# Altium integrated library Analog Devices Temperature Sensors.IntLib: 271 symbols (part 10 of 14)
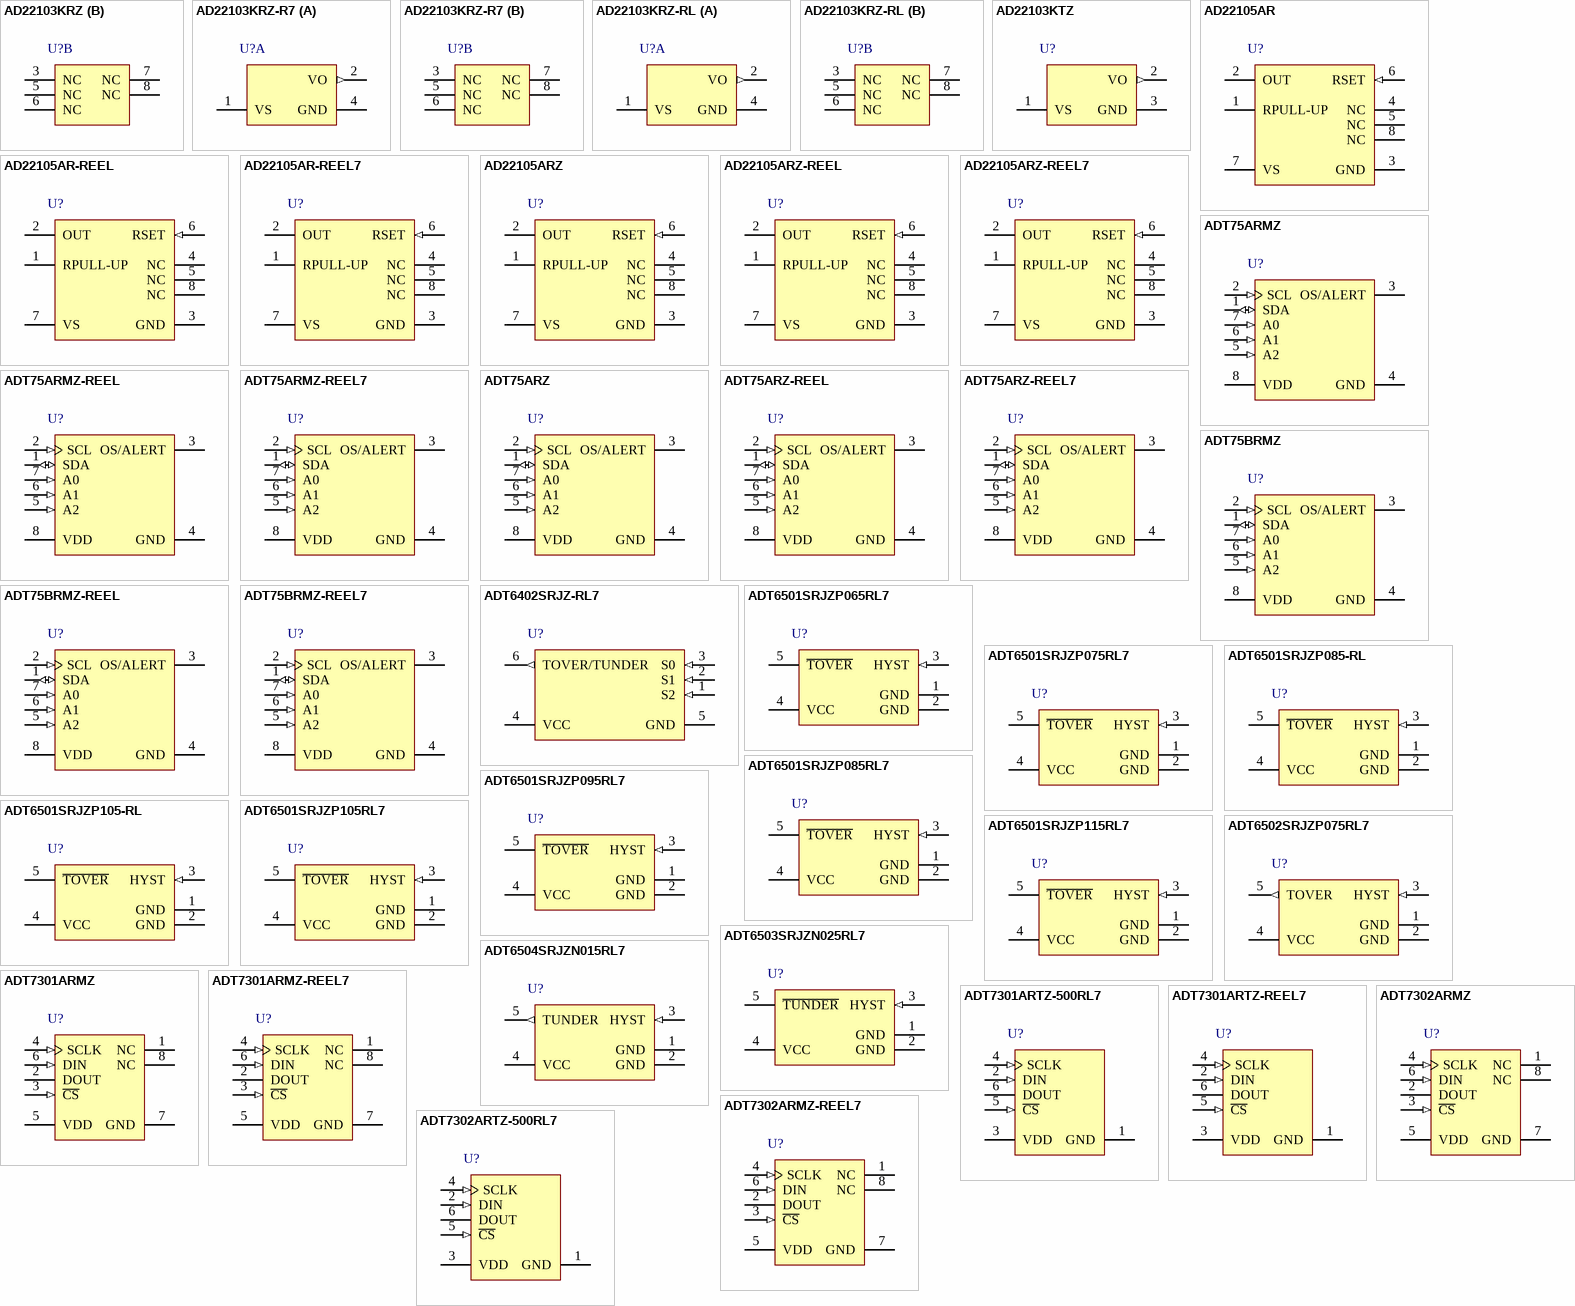
[diagram p16: symbols AD22103KRZ to ADT7302ARTZ-500RL7]

## ADT7301ARTZ-REEL7
designator U?
+/-1 degrees C Accurate, 13-Bit, Digital Temperature Sensor, 2.7 to 5.25 V Supply, Industrial, 6-pin SOT23 (RJ-6), Reel; Manufacturer: Analog Devices; PartNumber: ADT7301ARTZ-REEL7; DatasheetVersion: Rev. B; PackageVersion: 121608-A, 12/2008; PackageReference: RJ-6; PackageDescription: 6-Pin Small Outline Transistor Package, Body 2.9 x 1.6 mm, Pitch 0.95 mm; Supplier 1: Digi-Key; Supplier Part Number 1: ADT7301ARTZ-REEL7TR-ND; Supplier 2: Digi-Key; Supplier Part Number 2: ADT7301ARTZ-REEL7CT-ND; Supplier 3: Digi-Key; Supplier Part Number 3: ADT7301ARTZ-REEL7DKR-ND; Supplier 4: Farnell; Supplier Part Number 4: 2312915; Supplier 5: Newark; Supplier Part Number 5: 67W2736; Supplier 6: Newark; Supplier Part Number 6: 59K3052; Supplier 7: Mouser; Supplier Part Number 7: 584-ADT7301ARTZ-R7; Packing: Reel; Supply Voltage Range: 2.7 to 5.25 V; Mounting Technology: Surface Mount; Code_JEDEC: MO-178-AB; ComponentLink1Description: Manufacturer URL; ComponentLink1URL: http://www.analog.com/en/index.html; ComponentLink2Description: Datasheet; ComponentLink2URL: http://www.analog.com/static/imported-files/data_sheets/ADT7301.pdf; ComponentLink3Description: Package Specification; ComponentLink3URL: http://www.analog.com/static/imported-files/packages/PKG_PDF/SOT-23(RJ)/RJ_6.pdf; ComponentLink4Description: Product URL; ComponentLink4URL: http://www.analog.com/en/mems-sensors/digital-temperature-sensors/adt7301/products/product.html
footprint ADI-RJ-6_N (SOT23, 6-Leads, Body 2.9x1.6mm, Pitch 0.95mm, IPC Medium Density)
footprint ADI-RJ-6_L (SOT23, 6-Leads, Body 2.9x1.6mm, Pitch 0.95mm, IPC High Density)
footprint ADI-RJ-6_M (SOT23, 6-Leads, Body 2.9x1.6mm, Pitch 0.95mm, IPC Low Density)
pins: 1 GND (power) "Analog and Digital Ground.", 2 DIN (in) "Serial Data Input. Serial data to be loaded to the part’s control register is provided on this input. Data is clocked into the control register on the rising edge of SCLK.", 3 VDD (power) "Positive Supply Voltage, 2.7 V to 5.25 V.", 4 SCLK (in) "Serial Clock Input. This is the clock input for the serial port. The serial clock is used to clock data out of the temperature value register and to clock data into the control register on the part.", 5 ~{CS} (in) "Chip Select Input. Logic input. The device is selected when this input is low. The SCLK input is disabled when this pin is high.", 6 DOUT (hiz) "Serial Data Output. Logic output. Data is clocked out of the temperature value register at this pin. Data is clocked out on the falling edge of SCLK."

## ADT7302ARMZ
designator U?
+/-2 degrees C Accurate, MicroPower Digital Temperature Sensor, 2.7 to 5.25 V Supply, Industrial, 8-pin SOP (RM-8), Tube; Manufacturer: Analog Devices; PartNumber: ADT7302ARMZ; DatasheetVersion: Rev. B; PackageVersion: 08/2005; PackageReference: RM-8; PackageDescription: 8-Pin Mini Small Outline Package, Body 3 x 3 mm, Pitch 0.65 mm; Supplier 1: Digi-Key; Supplier Part Number 1: ADT7302ARMZ-ND; Supplier 2: Farnell; Supplier Part Number 2: 1117855; Supplier 3: Newark; Supplier Part Number 3: 31M3895; Supplier 4: Newark; Supplier Part Number 4: 59K3054; Supplier 5: Mouser; Supplier Part Number 5: 584-ADT7302ARMZ; Packing: Tube; Supply Voltage Range: 2.7 to 5.25 V; Mounting Technology: Surface Mount; Code_JEDEC: MO-187-AA; ComponentLink1Description: Manufacturer URL; ComponentLink1URL: http://www.analog.com/en/index.html; ComponentLink2Description: Datasheet; ComponentLink2URL: http://www.analog.com/static/imported-files/data_sheets/ADT7302.pdf; ComponentLink3Description: Package Specification; ComponentLink3URL: http://www.analog.com/static/imported-files/packages/PKG_PDF/MSOP%28RM%29/RM_8.pdf; ComponentLink4Description: Product URL; ComponentLink4URL: http://www.analog.com/en/mems-sensors/digital-temperature-sensors/adt7302/products/product.html
footprint ADI-RM-8_N (SOP, 8-Leads, Body 3x3mm, Pitch 0.65mm, IPC Medium Density)
footprint ADI-RM-8_L (SOP, 8-Leads, Body 3x3mm, Pitch 0.65mm, IPC High Density)
footprint ADI-RM-8_M (SOP, 8-Leads, Body 3x3mm, Pitch 0.65mm, IPC Low Density)
pins: 1 NC "No Connect.", 2 DOUT (hiz) "Serial Data Output. Logic output. Data is clocked out of the temperature value register at this pin. Data is clocked out on the falling edge of SCLK.", 3 ~{CS} (in) "Chip Select Input. Logic input. The device is selected when this input is low. The SCLK input is disabled when this pin is high.", 4 SCLK (in) "Serial Clock Input. This is the clock input for the serial port.", 5 VDD (power) "Positive Supply Voltage.", 6 DIN (in) "Serial Data Input. Serial data to be loaded to the part’s control register is provided on this input. Data is clocked into the control register on the rising edge of SCLK.", 7 GND (power) "Analog and Digital Ground.", 8 NC "No Connect."

## ADT7302ARMZ-REEL7
designator U?
+/-2 degrees C Accurate, MicroPower Digital Temperature Sensor, 2.7 to 5.25 V Supply, Industrial, 8-pin SOP (RM-8), Reel; Manufacturer: Analog Devices; PartNumber: ADT7302ARMZ-REEL7; DatasheetVersion: Rev. B; PackageVersion: 08/2005; PackageReference: RM-8; PackageDescription: 8-Pin Mini Small Outline Package, Body 3 x 3 mm, Pitch 0.65 mm; Supplier 1: Digi-Key; Supplier Part Number 1: ADT7302ARMZ-REEL7TR-ND; Supplier 2: Digi-Key; Supplier Part Number 2: ADT7302ARMZ-REEL7CT-ND; Supplier 3: Digi-Key; Supplier Part Number 3: ADT7302ARMZ-REEL7DKR-ND; Supplier 4: Mouser; Supplier Part Number 4: 584-ADT7302ARMZ-R7; Packing: Reel; Supply Voltage Range: 2.7 to 5.25 V; Mounting Technology: Surface Mount; Code_JEDEC: MO-187-AA; ComponentLink1Description: Manufacturer URL; ComponentLink1URL: http://www.analog.com/en/index.html; ComponentLink2Description: Datasheet; ComponentLink2URL: http://www.analog.com/static/imported-files/data_sheets/ADT7302.pdf; ComponentLink3Description: Package Specification; ComponentLink3URL: http://www.analog.com/static/imported-files/packages/PKG_PDF/MSOP%28RM%29/RM_8.pdf; ComponentLink4Description: Product URL; ComponentLink4URL: http://www.analog.com/en/mems-sensors/digital-temperature-sensors/adt7302/products/product.html
footprint ADI-RM-8_N (SOP, 8-Leads, Body 3x3mm, Pitch 0.65mm, IPC Medium Density)
footprint ADI-RM-8_L (SOP, 8-Leads, Body 3x3mm, Pitch 0.65mm, IPC High Density)
footprint ADI-RM-8_M (SOP, 8-Leads, Body 3x3mm, Pitch 0.65mm, IPC Low Density)
pins: 1 NC "No Connect.", 2 DOUT (hiz) "Serial Data Output. Logic output. Data is clocked out of the temperature value register at this pin. Data is clocked out on the falling edge of SCLK.", 3 ~{CS} (in) "Chip Select Input. Logic input. The device is selected when this input is low. The SCLK input is disabled when this pin is high.", 4 SCLK (in) "Serial Clock Input. This is the clock input for the serial port.", 5 VDD (power) "Positive Supply Voltage.", 6 DIN (in) "Serial Data Input. Serial data to be loaded to the part’s control register is provided on this input. Data is clocked into the control register on the rising edge of SCLK.", 7 GND (power) "Analog and Digital Ground.", 8 NC "No Connect."

## ADT7302ARTZ-500RL7
designator U?
+/-2 degrees C Accurate, MicroPower Digital Temperature Sensor, 2.7 to 5.25 V Supply, Industrial, 6-pin SOT23 (RJ-6), Reel; Manufacturer: Analog Devices; PartNumber: ADT7302ARTZ-500RL7; DatasheetVersion: Rev. B; PackageVersion: 121608-A, 12/2008; PackageReference: RJ-6; PackageDescription: 6-Pin Small Outline Transistor Package, Body 2.9 x 1.6 mm, Pitch 0.95 mm; Supplier 1: Digi-Key; Supplier Part Number 1: ADT7302ARTZ-500RL7TR-ND; Supplier 2: Digi-Key; Supplier Part Number 2: ADT7302ARTZ-500RL7CT-ND; Supplier 3: Digi-Key; Supplier Part Number 3: ADT7302ARTZ-500RL7DKR-ND; Supplier 4: Farnell; Supplier Part Number 4: 2377121; Supplier 5: Newark; Supplier Part Number 5: 99W6455; Supplier 6: Newark; Supplier Part Number 6: 59K3056; Supplier 7: Mouser; Supplier Part Number 7: 584-ADT7302ARTZ500R7; Packing: Reel; Supply Voltage Range: 2.7 to 5.25 V; Mounting Technology: Surface Mount; Code_JEDEC: MO-178-AB; ComponentLink1Description: Manufacturer URL; ComponentLink1URL: http://www.analog.com/en/index.html; ComponentLink2Description: Datasheet; ComponentLink2URL: http://www.analog.com/static/imported-files/data_sheets/ADT7302.pdf; ComponentLink3Description: Package Specification; ComponentLink3URL: http://www.analog.com/static/imported-files/packages/PKG_PDF/SOT-23(RJ)/RJ_6.pdf; ComponentLink4Description: Product URL; ComponentLink4URL: http://www.analog.com/en/mems-sensors/digital-temperature-sensors/adt7302/products/product.html
footprint ADI-RJ-6_N (SOT23, 6-Leads, Body 2.9x1.6mm, Pitch 0.95mm, IPC Medium Density)
footprint ADI-RJ-6_L (SOT23, 6-Leads, Body 2.9x1.6mm, Pitch 0.95mm, IPC High Density)
footprint ADI-RJ-6_M (SOT23, 6-Leads, Body 2.9x1.6mm, Pitch 0.95mm, IPC Low Density)
pins: 1 GND (power) "Analog and Digital Ground.", 2 DIN (in) "Serial Data Input. Serial data to be loaded to the part’s control register is provided on this input. Data is clocked into the control register on the rising edge of SCLK.", 3 VDD (power) "Positive Supply Voltage, 2.7 V to 5.25 V.", 4 SCLK (in) "Serial Clock Input. This is the clock input for the serial port. The serial clock is used to clock data out of the temperature value register and to clock data into the control register on the part.", 5 ~{CS} (in) "Chip Select Input. Logic input. The device is selected when this input is low. The SCLK input is disabled when this pin is high.", 6 DOUT (hiz) "Serial Data Output. Logic output. Data is clocked out of the temperature value register at this pin. Data is clocked out on the falling edge of SCLK."

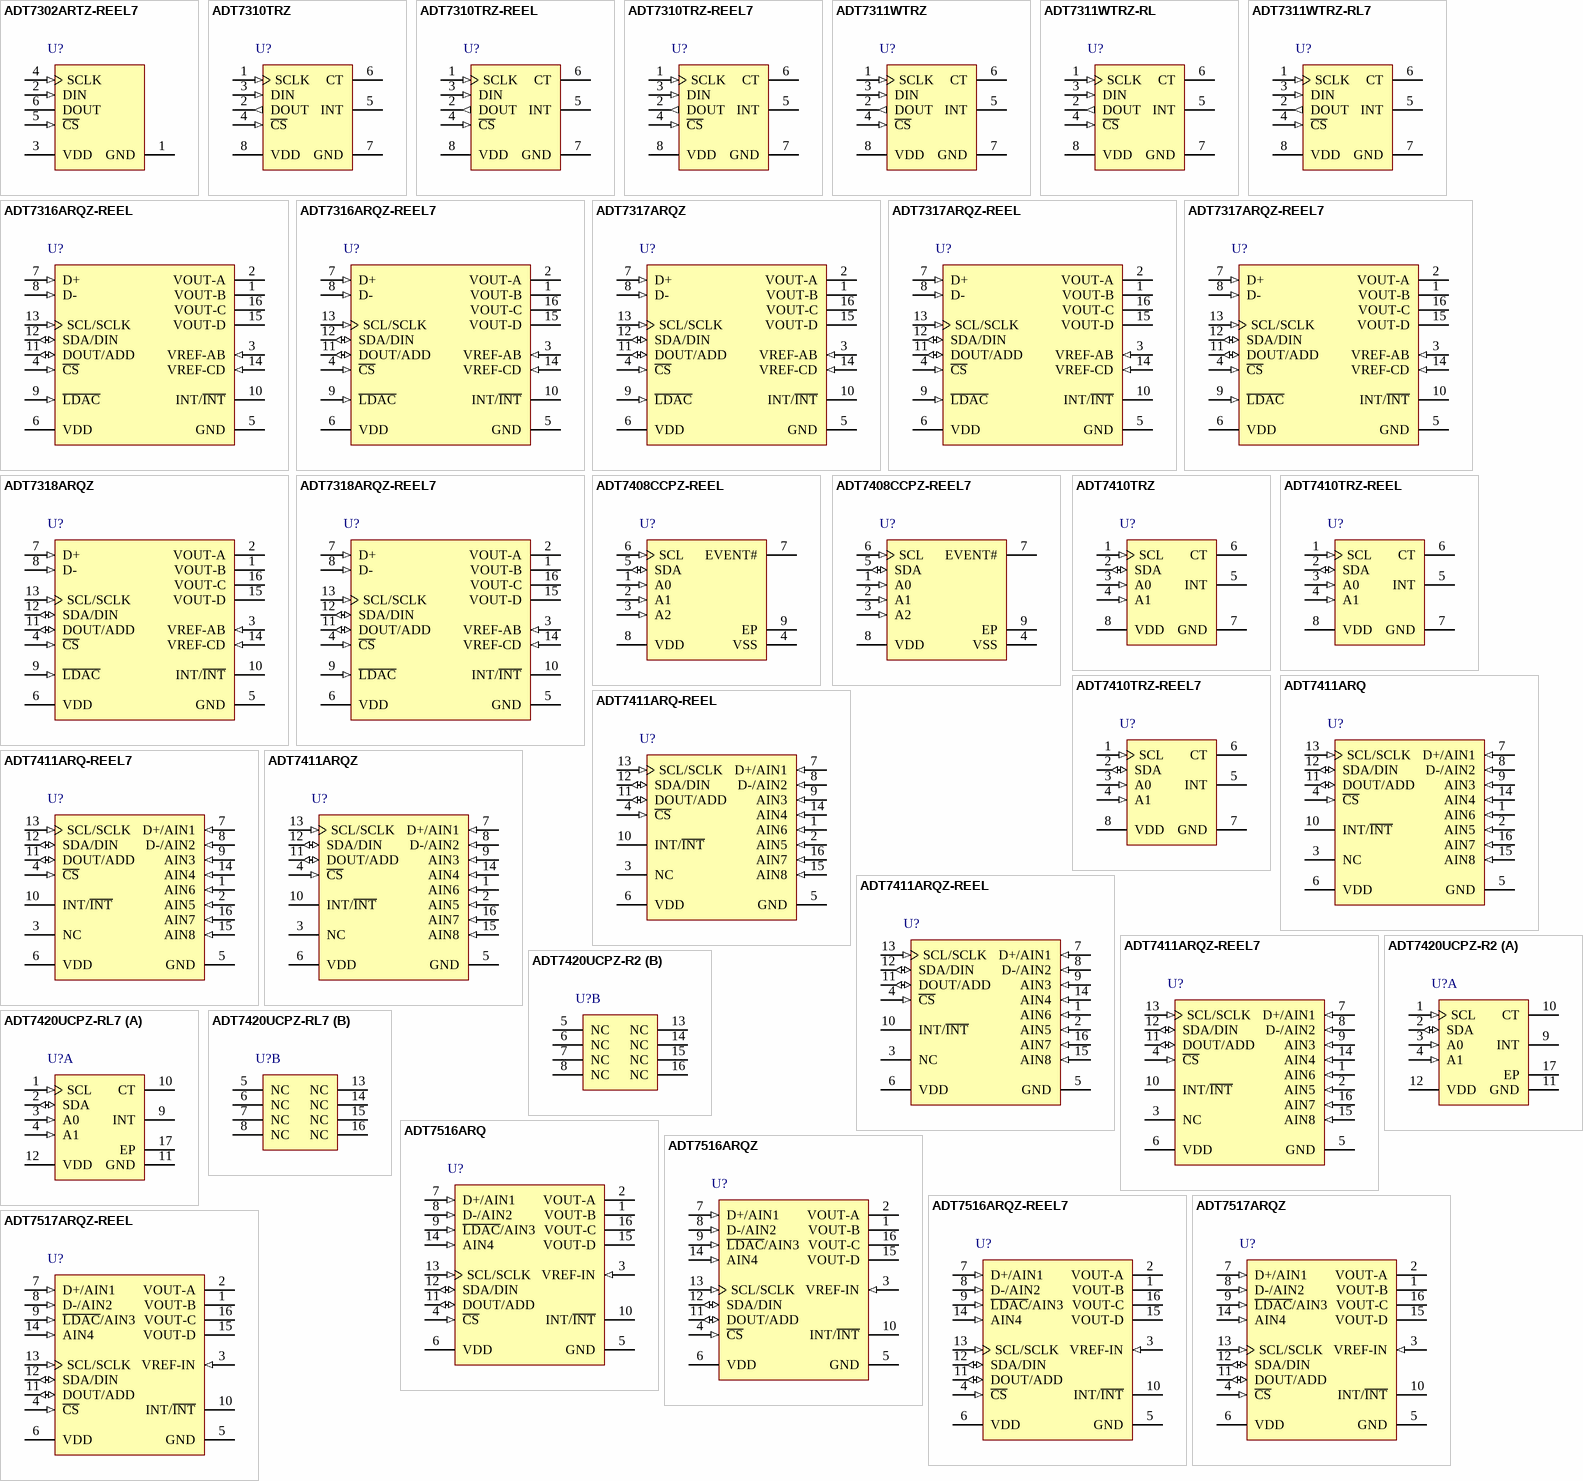
[diagram p5: symbols ADT7302ARTZ-REEL7 to ADT7517ARQZ-REEL]

## ADT7302ARTZ-REEL7
designator U?
+/-2 degrees C Accurate, MicroPower Digital Temperature Sensor, 2.7 to 5.25 V Supply, Industrial, 6-pin SOT23 (RJ-6), Reel; Manufacturer: Analog Devices; PartNumber: ADT7302ARTZ-REEL7; DatasheetVersion: Rev. B; PackageVersion: 121608-A, 12/2008; PackageReference: RJ-6; PackageDescription: 6-Pin Small Outline Transistor Package, Body 2.9 x 1.6 mm, Pitch 0.95 mm; Supplier 1: Digi-Key; Supplier Part Number 1: ADT7302ARTZ-REEL7TR-ND; Supplier 2: Digi-Key; Supplier Part Number 2: ADT7302ARTZ-REEL7CT-ND; Supplier 3: Digi-Key; Supplier Part Number 3: ADT7302ARTZ-REEL7DKR-ND; Supplier 4: Farnell; Supplier Part Number 4: 2377122; Supplier 5: Newark; Supplier Part Number 5: 67W2737; Supplier 6: Newark; Supplier Part Number 6: 59K3055; Supplier 7: Mouser; Supplier Part Number 7: 584-ADT7302ARTZ-R7; Packing: Reel; Supply Voltage Range: 2.7 to 5.25 V; Mounting Technology: Surface Mount; Code_JEDEC: MO-178-AB; ComponentLink1Description: Manufacturer URL; ComponentLink1URL: http://www.analog.com/en/index.html; ComponentLink2Description: Datasheet; ComponentLink2URL: http://www.analog.com/static/imported-files/data_sheets/ADT7302.pdf; ComponentLink3Description: Package Specification; ComponentLink3URL: http://www.analog.com/static/imported-files/packages/PKG_PDF/SOT-23(RJ)/RJ_6.pdf; ComponentLink4Description: Product URL; ComponentLink4URL: http://www.analog.com/en/mems-sensors/digital-temperature-sensors/adt7302/products/product.html
footprint ADI-RJ-6_N (SOT23, 6-Leads, Body 2.9x1.6mm, Pitch 0.95mm, IPC Medium Density)
footprint ADI-RJ-6_L (SOT23, 6-Leads, Body 2.9x1.6mm, Pitch 0.95mm, IPC High Density)
footprint ADI-RJ-6_M (SOT23, 6-Leads, Body 2.9x1.6mm, Pitch 0.95mm, IPC Low Density)
pins: 1 GND (power) "Analog and Digital Ground.", 2 DIN (in) "Serial Data Input. Serial data to be loaded to the part’s control register is provided on this input. Data is clocked into the control register on the rising edge of SCLK.", 3 VDD (power) "Positive Supply Voltage, 2.7 V to 5.25 V.", 4 SCLK (in) "Serial Clock Input. This is the clock input for the serial port. The serial clock is used to clock data out of the temperature value register and to clock data into the control register on the part.", 5 ~{CS} (in) "Chip Select Input. Logic input. The device is selected when this input is low. The SCLK input is disabled when this pin is high.", 6 DOUT (hiz) "Serial Data Output. Logic output. Data is clocked out of the temperature value register at this pin. Data is clocked out on the falling edge of SCLK."

## ADT7310TRZ
designator U?
+/-0.5 degrees C Accurate, 16-Bit Digital SPI Temperature Sensor, 2.7 to 5.5 V Supply, Industrial, 8-pin SOIC (R-8), Tube; Manufacturer: Analog Devices; PartNumber: ADT7310TRZ; DatasheetVersion: Rev. A; PackageVersion: 060506-A, 06/2006; PackageReference: R-8; PackageDescription: 8-Pin Standard Small Outline Package, Body 4.9 x 3.9 mm, Pitch 1.27 mm; Supplier 1: Digi-Key; Supplier Part Number 1: ADT7310TRZ-ND; Supplier 2: Farnell; Supplier Part Number 2: 2067805; Supplier 3: Newark; Supplier Part Number 3: 08R6643; Supplier 4: Mouser; Supplier Part Number 4: 584-ADT7310TRZ; Packing: Tube; Supply Voltage Range: 2.7 to 5.5 V; Mounting Technology: Surface Mount; Code_JEDEC: MS-012-AA; ComponentLink1Description: Manufacturer URL; ComponentLink1URL: http://www.analog.com/en/index.html; ComponentLink2Description: Datasheet; ComponentLink2URL: http://www.analog.com/static/imported-files/data_sheets/ADT7310.pdf; ComponentLink3Description: Package Specification; ComponentLink3URL: http://www.analog.com/static/imported-files/packages/PKG_PDF/SOIC_Narrow%20(R)/R_8.pdf; ComponentLink4Description: Product URL; ComponentLink4URL: http://www.analog.com/en/mems-sensors/digital-temperature-sensors/adt7310/products/product.html
footprint ADI-R-8_N (SOIC, 8-Leads, Body 4.9x3.9mm, Pitch 1.27mm, IPC Medium Density)
footprint ADI-R-8_L (SOIC, 8-Leads, Body 4.9x3.9mm, Pitch 1.27mm, IPC High Density)
footprint ADI-R-8_M (SOIC, 8-Leads, Body 4.9x3.9mm, Pitch 1.27mm, IPC Low Density)
pins: 1 SCLK (in) "Serial Clock Input. The serial clock is used to clock in and clock out data to and from any register of the ADT7310 and ADT7311.", 2 DOUT (out) "Serial Data Output. Data is clocked out on the SCLK falling edge and is valid on the SCLK rising edge.", 3 DIN (in) "Serial Data Input. Serial data to be loaded to the part’s control registers is provided on this input. Data is clocked into the registers on the rising edge of SCLK.", 4 ~{CS} (in) "Chip Select Input. The device is selected when this input is low. The device is disabled when this pin is high.", 5 INT (oc) "Overtemperature and Undertemperature Indicator. Logic output. Power-up default setting is as an active low comparator interrupt. Open-drain configuration. A pull-up resistor is required, typically 10 kO.", 6 CT (oc) "Critical Overtemperature Indicator. Logic output. Power-up default polarity is active low. Open-drain configuration. A pull-up resistor is required, typically 10 kO.", 7 GND (power) "Analog and Digital Ground.", 8 VDD (power) "Positive Supply Voltage (2.7 V to 5.5 V). The supply should be decoupled with a 0.1 µF ceramic capacitor to ground."

## ADT7310TRZ-REEL
designator U?
+/-0.5 degrees C Accurate, 16-Bit Digital SPI Temperature Sensor, 2.7 to 5.5 V Supply, Industrial, 8-pin SOIC (R-8), Reel; Manufacturer: Analog Devices; PartNumber: ADT7310TRZ-REEL; DatasheetVersion: Rev. A; PackageVersion: 060506-A, 06/2006; PackageReference: R-8; PackageDescription: 8-Pin Standard Small Outline Package, Body 4.9 x 3.9 mm, Pitch 1.27 mm; Supplier 1: Digi-Key; Supplier Part Number 1: ADT7310TRZ-REEL-ND; Supplier 2: Newark; Supplier Part Number 2: 08R6644; Supplier 3: Mouser; Supplier Part Number 3: 584-ADT7310TRZ-R; Packing: Reel; Supply Voltage Range: 2.7 to 5.5 V; Mounting Technology: Surface Mount; Code_JEDEC: MS-012-AA; ComponentLink1Description: Manufacturer URL; ComponentLink1URL: http://www.analog.com/en/index.html; ComponentLink2Description: Datasheet; ComponentLink2URL: http://www.analog.com/static/imported-files/data_sheets/ADT7310.pdf; ComponentLink3Description: Package Specification; ComponentLink3URL: http://www.analog.com/static/imported-files/packages/PKG_PDF/SOIC_Narrow%20(R)/R_8.pdf; ComponentLink4Description: Product URL; ComponentLink4URL: http://www.analog.com/en/mems-sensors/digital-temperature-sensors/adt7310/products/product.html
footprint ADI-R-8_N (SOIC, 8-Leads, Body 4.9x3.9mm, Pitch 1.27mm, IPC Medium Density)
footprint ADI-R-8_L (SOIC, 8-Leads, Body 4.9x3.9mm, Pitch 1.27mm, IPC High Density)
footprint ADI-R-8_M (SOIC, 8-Leads, Body 4.9x3.9mm, Pitch 1.27mm, IPC Low Density)
pins: 1 SCLK (in) "Serial Clock Input. The serial clock is used to clock in and clock out data to and from any register of the ADT7310 and ADT7311.", 2 DOUT (out) "Serial Data Output. Data is clocked out on the SCLK falling edge and is valid on the SCLK rising edge.", 3 DIN (in) "Serial Data Input. Serial data to be loaded to the part’s control registers is provided on this input. Data is clocked into the registers on the rising edge of SCLK.", 4 ~{CS} (in) "Chip Select Input. The device is selected when this input is low. The device is disabled when this pin is high.", 5 INT (oc) "Overtemperature and Undertemperature Indicator. Logic output. Power-up default setting is as an active low comparator interrupt. Open-drain configuration. A pull-up resistor is required, typically 10 kO.", 6 CT (oc) "Critical Overtemperature Indicator. Logic output. Power-up default polarity is active low. Open-drain configuration. A pull-up resistor is required, typically 10 kO.", 7 GND (power) "Analog and Digital Ground.", 8 VDD (power) "Positive Supply Voltage (2.7 V to 5.5 V). The supply should be decoupled with a 0.1 µF ceramic capacitor to ground."

## ADT7310TRZ-REEL7
designator U?
+/-0.5 degrees C Accurate, 16-Bit Digital SPI Temperature Sensor, 2.7 to 5.5 V Supply, Industrial, 8-pin SOIC (R-8), Reel; Manufacturer: Analog Devices; PartNumber: ADT7310TRZ-REEL7; DatasheetVersion: Rev. A; PackageVersion: 060506-A, 06/2006; PackageReference: R-8; PackageDescription: 8-Pin Standard Small Outline Package, Body 4.9 x 3.9 mm, Pitch 1.27 mm; Supplier 1: Digi-Key; Supplier Part Number 1: ADT7310TRZ-REEL7TR-ND; Supplier 2: Digi-Key; Supplier Part Number 2: ADT7310TRZ-REEL7CT-ND; Supplier 3: Digi-Key; Supplier Part Number 3: ADT7310TRZ-REEL7DKR-ND; Supplier 4: Newark; Supplier Part Number 4: 08R6645; Supplier 5: Mouser; Supplier Part Number 5: 584-ADT7310TRZ-R7; Packing: Reel; Supply Voltage Range: 2.7 to 5.5 V; Mounting Technology: Surface Mount; Code_JEDEC: MS-012-AA; ComponentLink1Description: Manufacturer URL; ComponentLink1URL: http://www.analog.com/en/index.html; ComponentLink2Description: Datasheet; ComponentLink2URL: http://www.analog.com/static/imported-files/data_sheets/ADT7310.pdf; ComponentLink3Description: Package Specification; ComponentLink3URL: http://www.analog.com/static/imported-files/packages/PKG_PDF/SOIC_Narrow%20(R)/R_8.pdf; ComponentLink4Description: Product URL; ComponentLink4URL: http://www.analog.com/en/mems-sensors/digital-temperature-sensors/adt7310/products/product.html
footprint ADI-R-8_N (SOIC, 8-Leads, Body 4.9x3.9mm, Pitch 1.27mm, IPC Medium Density)
footprint ADI-R-8_L (SOIC, 8-Leads, Body 4.9x3.9mm, Pitch 1.27mm, IPC High Density)
footprint ADI-R-8_M (SOIC, 8-Leads, Body 4.9x3.9mm, Pitch 1.27mm, IPC Low Density)
pins: 1 SCLK (in) "Serial Clock Input. The serial clock is used to clock in and clock out data to and from any register of the ADT7310 and ADT7311.", 2 DOUT (out) "Serial Data Output. Data is clocked out on the SCLK falling edge and is valid on the SCLK rising edge.", 3 DIN (in) "Serial Data Input. Serial data to be loaded to the part’s control registers is provided on this input. Data is clocked into the registers on the rising edge of SCLK.", 4 ~{CS} (in) "Chip Select Input. The device is selected when this input is low. The device is disabled when this pin is high.", 5 INT (oc) "Overtemperature and Undertemperature Indicator. Logic output. Power-up default setting is as an active low comparator interrupt. Open-drain configuration. A pull-up resistor is required, typically 10 kO.", 6 CT (oc) "Critical Overtemperature Indicator. Logic output. Power-up default polarity is active low. Open-drain configuration. A pull-up resistor is required, typically 10 kO.", 7 GND (power) "Analog and Digital Ground.", 8 VDD (power) "Positive Supply Voltage (2.7 V to 5.5 V). The supply should be decoupled with a 0.1 µF ceramic capacitor to ground."

## ADT7311WTRZ
designator U?
Automotive, +/-0.5 degrees C Accurate, 16-Bit Digital SPI Temperature Sensor, 2.7 to 5.5 V Supply, Military, 8-pin SOIC (R-8), Tube; Manufacturer: Analog Devices; PartNumber: ADT7311WTRZ; DatasheetVersion: Rev. 0; PackageVersion: 060506-A, 06/2006; PackageReference: R-8; PackageDescription: 8-Pin Standard Small Outline Package, Body 4.9 x 3.9 mm, Pitch 1.27 mm; Supplier 1: Mouser; Supplier Part Number 1: N/A; Packing: Tube; Supply Voltage Range: 2.7 to 5.5 V; Mounting Technology: Surface Mount; Code_JEDEC: MS-012-AA; ComponentLink1Description: Manufacturer URL; ComponentLink1URL: http://www.analog.com/en/index.html; ComponentLink2Description: Datasheet; ComponentLink2URL: http://www.analog.com/static/imported-files/data_sheets/ADT7311.pdf; ComponentLink3Description: Package Specification; ComponentLink3URL: http://www.analog.com/static/imported-files/packages/PKG_PDF/SOIC_Narrow%20(R)/R_8.pdf; ComponentLink4Description: Product URL; ComponentLink4URL: http://www.analog.com/en/mems-sensors/digital-temperature-sensors/adt7311/products/product.html
footprint ADI-R-8_N (SOIC, 8-Leads, Body 4.9x3.9mm, Pitch 1.27mm, IPC Medium Density)
footprint ADI-R-8_L (SOIC, 8-Leads, Body 4.9x3.9mm, Pitch 1.27mm, IPC High Density)
footprint ADI-R-8_M (SOIC, 8-Leads, Body 4.9x3.9mm, Pitch 1.27mm, IPC Low Density)
pins: 1 SCLK (in) "Serial Clock Input. The serial clock is used to clock in and clock out data to and from any register of the ADT7310 and ADT7311.", 2 DOUT (out) "Serial Data Output. Data is clocked out on the SCLK falling edge and is valid on the SCLK rising edge.", 3 DIN (in) "Serial Data Input. Serial data to be loaded to the part’s control registers is provided on this input. Data is clocked into the registers on the rising edge of SCLK.", 4 ~{CS} (in) "Chip Select Input. The device is selected when this input is low. The device is disabled when this pin is high.", 5 INT (oc) "Overtemperature and Undertemperature Indicator. Logic output. Power-up default setting is as an active low comparator interrupt. Open-drain configuration. A pull-up resistor is required, typically 10 kO.", 6 CT (oc) "Critical Overtemperature Indicator. Logic output. Power-up default polarity is active low. Open-drain configuration. A pull-up resistor is required, typically 10 kO.", 7 GND (power) "Analog and Digital Ground.", 8 VDD (power) "Positive Supply Voltage (2.7 V to 5.5 V). The supply should be decoupled with a 0.1 µF ceramic capacitor to ground."

## ADT7311WTRZ-RL
designator U?
Automotive, +/-0.5 degrees C Accurate, 16-Bit Digital SPI Temperature Sensor, 2.7 to 5.5 V Supply, Military, 8-pin SOIC (R-8), Reel; Manufacturer: Analog Devices; PartNumber: ADT7311WTRZ-RL; DatasheetVersion: Rev. 0; PackageVersion: 060506-A, 06/2006; PackageReference: R-8; PackageDescription: 8-Pin Standard Small Outline Package, Body 4.9 x 3.9 mm, Pitch 1.27 mm; Supplier 1: Mouser; Supplier Part Number 1: N/A; Packing: Reel; Supply Voltage Range: 2.7 to 5.5 V; Mounting Technology: Surface Mount; Code_JEDEC: MS-012-AA; ComponentLink1Description: Manufacturer URL; ComponentLink1URL: http://www.analog.com/en/index.html; ComponentLink2Description: Datasheet; ComponentLink2URL: http://www.analog.com/static/imported-files/data_sheets/ADT7311.pdf; ComponentLink3Description: Package Specification; ComponentLink3URL: http://www.analog.com/static/imported-files/packages/PKG_PDF/SOIC_Narrow%20(R)/R_8.pdf; ComponentLink4Description: Product URL; ComponentLink4URL: http://www.analog.com/en/mems-sensors/digital-temperature-sensors/adt7311/products/product.html
footprint ADI-R-8_N (SOIC, 8-Leads, Body 4.9x3.9mm, Pitch 1.27mm, IPC Medium Density)
footprint ADI-R-8_L (SOIC, 8-Leads, Body 4.9x3.9mm, Pitch 1.27mm, IPC High Density)
footprint ADI-R-8_M (SOIC, 8-Leads, Body 4.9x3.9mm, Pitch 1.27mm, IPC Low Density)
pins: 1 SCLK (in) "Serial Clock Input. The serial clock is used to clock in and clock out data to and from any register of the ADT7310 and ADT7311.", 2 DOUT (out) "Serial Data Output. Data is clocked out on the SCLK falling edge and is valid on the SCLK rising edge.", 3 DIN (in) "Serial Data Input. Serial data to be loaded to the part’s control registers is provided on this input. Data is clocked into the registers on the rising edge of SCLK.", 4 ~{CS} (in) "Chip Select Input. The device is selected when this input is low. The device is disabled when this pin is high.", 5 INT (oc) "Overtemperature and Undertemperature Indicator. Logic output. Power-up default setting is as an active low comparator interrupt. Open-drain configuration. A pull-up resistor is required, typically 10 kO.", 6 CT (oc) "Critical Overtemperature Indicator. Logic output. Power-up default polarity is active low. Open-drain configuration. A pull-up resistor is required, typically 10 kO.", 7 GND (power) "Analog and Digital Ground.", 8 VDD (power) "Positive Supply Voltage (2.7 V to 5.5 V). The supply should be decoupled with a 0.1 µF ceramic capacitor to ground."

## ADT7311WTRZ-RL7
designator U?
Automotive, +/-0.5 degrees C Accurate, 16-Bit Digital SPI Temperature Sensor, 2.7 to 5.5 V Supply, Military, 8-pin SOIC (R-8), Reel; Manufacturer: Analog Devices; PartNumber: ADT7311WTRZ-RL7; DatasheetVersion: Rev. 0; PackageVersion: 060506-A, 06/2006; PackageReference: R-8; PackageDescription: 8-Pin Standard Small Outline Package, Body 4.9 x 3.9 mm, Pitch 1.27 mm; Supplier 1: Mouser; Supplier Part Number 1: N/A; Packing: Reel; Supply Voltage Range: 2.7 to 5.5 V; Mounting Technology: Surface Mount; Code_JEDEC: MS-012-AA; ComponentLink1Description: Manufacturer URL; ComponentLink1URL: http://www.analog.com/en/index.html; ComponentLink2Description: Datasheet; ComponentLink2URL: http://www.analog.com/static/imported-files/data_sheets/ADT7311.pdf; ComponentLink3Description: Package Specification; ComponentLink3URL: http://www.analog.com/static/imported-files/packages/PKG_PDF/SOIC_Narrow%20(R)/R_8.pdf; ComponentLink4Description: Product URL; ComponentLink4URL: http://www.analog.com/en/mems-sensors/digital-temperature-sensors/adt7311/products/product.html
footprint ADI-R-8_N (SOIC, 8-Leads, Body 4.9x3.9mm, Pitch 1.27mm, IPC Medium Density)
footprint ADI-R-8_L (SOIC, 8-Leads, Body 4.9x3.9mm, Pitch 1.27mm, IPC High Density)
footprint ADI-R-8_M (SOIC, 8-Leads, Body 4.9x3.9mm, Pitch 1.27mm, IPC Low Density)
pins: 1 SCLK (in) "Serial Clock Input. The serial clock is used to clock in and clock out data to and from any register of the ADT7310 and ADT7311.", 2 DOUT (out) "Serial Data Output. Data is clocked out on the SCLK falling edge and is valid on the SCLK rising edge.", 3 DIN (in) "Serial Data Input. Serial data to be loaded to the part’s control registers is provided on this input. Data is clocked into the registers on the rising edge of SCLK.", 4 ~{CS} (in) "Chip Select Input. The device is selected when this input is low. The device is disabled when this pin is high.", 5 INT (oc) "Overtemperature and Undertemperature Indicator. Logic output. Power-up default setting is as an active low comparator interrupt. Open-drain configuration. A pull-up resistor is required, typically 10 kO.", 6 CT (oc) "Critical Overtemperature Indicator. Logic output. Power-up default polarity is active low. Open-drain configuration. A pull-up resistor is required, typically 10 kO.", 7 GND (power) "Analog and Digital Ground.", 8 VDD (power) "Positive Supply Voltage (2.7 V to 5.5 V). The supply should be decoupled with a 0.1 µF ceramic capacitor to ground."

## ADT7316ARQZ-REEL
designator U?
+/-0.5 degrees C Accurate Digital Temperature Sensor and Quad Voltage Output 12-Bit DAC, 2.7 to 5.5 V Supply, Industrial, 16-pin SOP (RQ-16), Reel; Manufacturer: Analog Devices; PartNumber: ADT7316ARQZ-REEL; #_ADC_channels: 1; #_DAC_channels: 4; DatasheetVersion: Rev. B; PackageVersion: 08/2005; PackageReference: RQ-16; PackageDescription: 16-Pin Shrink Small Outline Package, Body 4.9 x 3.9 mm, Pitch 0.64 mm; Supplier 1: Digi-Key; Supplier Part Number 1: ADT7316ARQZ-REELTR-ND; Supplier 2: Digi-Key; Supplier Part Number 2: ADT7316ARQZ-REELCT-ND; Supplier 3: Digi-Key; Supplier Part Number 3: ADT7316ARQZ-REELDKR-ND; Supplier 4: Mouser; Supplier Part Number 4: 584-ADT7316ARQZ-R; Packing: Reel; Supply Voltage Range: 2.7 to 5.5 V; Mounting Technology: Surface Mount; Code_JEDEC: MO-137-AB; ComponentLink1Description: Manufacturer URL; ComponentLink1URL: http://www.analog.com/en/index.html; ComponentLink2Description: Datasheet; ComponentLink2URL: http://www.analog.com/static/imported-files/data_sheets/ADT7316_7317_7318.pdf; ComponentLink3Description: Package Specification; ComponentLink3URL: http://www.analog.com/static/imported-files/packages/5595549651201762937RQ_16.pdf; ComponentLink4Description: Product URL; ComponentLink4URL: http://www.analog.com/en/mems-sensors/digital-temperature-sensors/adt7316/products/product.html
footprint ADI-RQ-16_N (SOP, 16-Leads, Body 4.9x3.9mm, Pitch 0.64mm, IPC Medium Density)
footprint ADI-RQ-16_L (SOP, 16-Leads, Body 4.9x3.9mm, Pitch 0.64mm, IPC High Density)
footprint ADI-RQ-16_M (SOP, 16-Leads, Body 4.9x3.9mm, Pitch 0.64mm, IPC Low Density)
pins: 1 VOUT-B (hiz) "Buffered Analog Output Voltage from DAC B. The output amplifier has rail-to-rail operation.", 2 VOUT-A (hiz) "Buffered Analog Output Voltage from DAC A. The output amplifier has rail-to-rail operation.", 3 VREF-AB (in) "Reference Input Pin for DAC A and DAC B. It may be configured as a buffered or unbuffered input to both DAC A and DAC B. It has an input range from 0.25 V to VDD in unbuffered mode and from 1 V to VDD in buffered mode. DAC A (See Datasheet)", 4 ~{CS} (in) "SPI Active Low Control Input. This is the frame synchronization signal for the input data. When C\S\ goes low, it enables the input register, and data is transferred in on the rising edges and out on the falling edges of the (See Datasheet)", 5 GND (power) "Ground Reference Point for All Circuitry on the Part. Analog and digital ground.", 6 VDD (power) "Positive Supply Voltage, 2.7 V to 5.5 V. The supply should be decoupled to ground.", 7 D+ (in) "Positive connection to external temperature sensor.", 8 D- (in) "Negative connection to external temperature sensor.", 9 ~{LDAC} (in) "Active low control input that transfers the contents of the input registers to their respective DAC registers. A falling edge on this pin forces any or all DAC registers to be updated if the input registers have new data. A (See Datasheet)", 10 INT/~{INT} (oc) "Over-Limit Interrupt. The output polarity of this pin can be set to give an active low or active high interrupt when temperature or VDD limits are exceeded. Default is active low. Open-drain output-needs a pull-up resistor.", 11 DOUT/ADD (io) "DOUT: SPI Serial Data Output. Logic output. Data is clocked out of any register at this pin. Data is clocked out on the falling edge of SCLK. Open-drain output-needs a pull-up resistor. ADD: I2C Serial Bus Address Selection (See Datasheet)", 12 SDA/DIN (io) "SDA: I2C Serial Data Input. I2C serial data that is loaded into the device registers is provided on this input. Open-drain configuration-needs a pull-up resistor. DIN: SPI Serial Data Input. Serial data to be loaded into the (See Datasheet)", 13 SCL/SCLK (in) "Serial Clock Input. This is the clock input for the serial port. The serial clock is used to clock data out of any register of the ADT7316/ADT7317/ADT7318 and also to clock data into any register that can be written to. (See Datasheet)", 14 VREF-CD (in) "Reference Input Pin for DAC C and DAC D. It can be configured as a buffered or unbuffered input to both DAC C and DAC D. It has an input range from 0.25 V to VDD in unbuffered mode and from 1 V to VDD in buffered mode. DAC C (See Datasheet)", 15 VOUT-D (hiz) "Buffered Analog Output Voltage from DAC D. The output amplifier has rail-to-rail operation.", 16 VOUT-C (hiz) "Buffered Analog Output Voltage from DAC C. The output amplifier has rail-to-rail operation."

## ADT7316ARQZ-REEL7
designator U?
+/-0.5 degrees C Accurate Digital Temperature Sensor and Quad Voltage Output 12-Bit DAC, 2.7 to 5.5 V Supply, Industrial, 16-pin SOP (RQ-16), Reel; Manufacturer: Analog Devices; PartNumber: ADT7316ARQZ-REEL7; #_ADC_channels: 1; #_DAC_channels: 4; DatasheetVersion: Rev. B; PackageVersion: 08/2005; PackageReference: RQ-16; PackageDescription: 16-Pin Shrink Small Outline Package, Body 4.9 x 3.9 mm, Pitch 0.64 mm; Supplier 1: Digi-Key; Supplier Part Number 1: ADT7316ARQZ-REEL7TR-ND; Supplier 2: Digi-Key; Supplier Part Number 2: ADT7316ARQZ-REEL7CT-ND; Supplier 3: Digi-Key; Supplier Part Number 3: ADT7316ARQZ-REEL7DKR-ND; Supplier 4: Mouser; Supplier Part Number 4: 584-ADT7316ARQZ-R7; Packing: Reel; Supply Voltage Range: 2.7 to 5.5 V; Mounting Technology: Surface Mount; Code_JEDEC: MO-137-AB; ComponentLink1Description: Manufacturer URL; ComponentLink1URL: http://www.analog.com/en/index.html; ComponentLink2Description: Datasheet; ComponentLink2URL: http://www.analog.com/static/imported-files/data_sheets/ADT7316_7317_7318.pdf; ComponentLink3Description: Package Specification; ComponentLink3URL: http://www.analog.com/static/imported-files/packages/5595549651201762937RQ_16.pdf; ComponentLink4Description: Product URL; ComponentLink4URL: http://www.analog.com/en/mems-sensors/digital-temperature-sensors/adt7316/products/product.html
footprint ADI-RQ-16_N (SOP, 16-Leads, Body 4.9x3.9mm, Pitch 0.64mm, IPC Medium Density)
footprint ADI-RQ-16_L (SOP, 16-Leads, Body 4.9x3.9mm, Pitch 0.64mm, IPC High Density)
footprint ADI-RQ-16_M (SOP, 16-Leads, Body 4.9x3.9mm, Pitch 0.64mm, IPC Low Density)
pins: 1 VOUT-B (hiz) "Buffered Analog Output Voltage from DAC B. The output amplifier has rail-to-rail operation.", 2 VOUT-A (hiz) "Buffered Analog Output Voltage from DAC A. The output amplifier has rail-to-rail operation.", 3 VREF-AB (in) "Reference Input Pin for DAC A and DAC B. It may be configured as a buffered or unbuffered input to both DAC A and DAC B. It has an input range from 0.25 V to VDD in unbuffered mode and from 1 V to VDD in buffered mode. DAC A (See Datasheet)", 4 ~{CS} (in) "SPI Active Low Control Input. This is the frame synchronization signal for the input data. When C\S\ goes low, it enables the input register, and data is transferred in on the rising edges and out on the falling edges of the (See Datasheet)", 5 GND (power) "Ground Reference Point for All Circuitry on the Part. Analog and digital ground.", 6 VDD (power) "Positive Supply Voltage, 2.7 V to 5.5 V. The supply should be decoupled to ground.", 7 D+ (in) "Positive connection to external temperature sensor.", 8 D- (in) "Negative connection to external temperature sensor.", 9 ~{LDAC} (in) "Active low control input that transfers the contents of the input registers to their respective DAC registers. A falling edge on this pin forces any or all DAC registers to be updated if the input registers have new data. A (See Datasheet)", 10 INT/~{INT} (oc) "Over-Limit Interrupt. The output polarity of this pin can be set to give an active low or active high interrupt when temperature or VDD limits are exceeded. Default is active low. Open-drain output-needs a pull-up resistor.", 11 DOUT/ADD (io) "DOUT: SPI Serial Data Output. Logic output. Data is clocked out of any register at this pin. Data is clocked out on the falling edge of SCLK. Open-drain output-needs a pull-up resistor. ADD: I2C Serial Bus Address Selection (See Datasheet)", 12 SDA/DIN (io) "SDA: I2C Serial Data Input. I2C serial data that is loaded into the device registers is provided on this input. Open-drain configuration-needs a pull-up resistor. DIN: SPI Serial Data Input. Serial data to be loaded into the (See Datasheet)", 13 SCL/SCLK (in) "Serial Clock Input. This is the clock input for the serial port. The serial clock is used to clock data out of any register of the ADT7316/ADT7317/ADT7318 and also to clock data into any register that can be written to. (See Datasheet)", 14 VREF-CD (in) "Reference Input Pin for DAC C and DAC D. It can be configured as a buffered or unbuffered input to both DAC C and DAC D. It has an input range from 0.25 V to VDD in unbuffered mode and from 1 V to VDD in buffered mode. DAC C (See Datasheet)", 15 VOUT-D (hiz) "Buffered Analog Output Voltage from DAC D. The output amplifier has rail-to-rail operation.", 16 VOUT-C (hiz) "Buffered Analog Output Voltage from DAC C. The output amplifier has rail-to-rail operation."

## ADT7317ARQZ
designator U?
+/-0.5 degrees C Accurate Digital Temperature Sensor and Quad Voltage Output 10-Bit DAC, 2.7 to 5.5 V Supply, Industrial, 16-pin SOP (RQ-16), Tube; Manufacturer: Analog Devices; PartNumber: ADT7317ARQZ; #_ADC_channels: 1; #_DAC_channels: 4; DatasheetVersion: Rev. B; PackageVersion: 08/2005; PackageReference: RQ-16; PackageDescription: 16-Pin Shrink Small Outline Package, Body 4.9 x 3.9 mm, Pitch 0.64 mm; Supplier 1: Digi-Key; Supplier Part Number 1: ADT7317ARQZ-ND; Supplier 2: Mouser; Supplier Part Number 2: N/A; Packing: Tube; Supply Voltage Range: 2.7 to 5.5 V; Mounting Technology: Surface Mount; Code_JEDEC: MO-137-AB; ComponentLink1Description: Manufacturer URL; ComponentLink1URL: http://www.analog.com/en/index.html; ComponentLink2Description: Datasheet; ComponentLink2URL: http://www.analog.com/static/imported-files/data_sheets/ADT7316_7317_7318.pdf; ComponentLink3Description: Package Specification; ComponentLink3URL: http://www.analog.com/static/imported-files/packages/5595549651201762937RQ_16.pdf; ComponentLink4Description: Product URL; ComponentLink4URL: http://www.analog.com/en/mems-sensors/digital-temperature-sensors/adt7317/products/product.html
footprint ADI-RQ-16_N (SOP, 16-Leads, Body 4.9x3.9mm, Pitch 0.64mm, IPC Medium Density)
footprint ADI-RQ-16_L (SOP, 16-Leads, Body 4.9x3.9mm, Pitch 0.64mm, IPC High Density)
footprint ADI-RQ-16_M (SOP, 16-Leads, Body 4.9x3.9mm, Pitch 0.64mm, IPC Low Density)
pins: 1 VOUT-B (hiz) "Buffered Analog Output Voltage from DAC B. The output amplifier has rail-to-rail operation.", 2 VOUT-A (hiz) "Buffered Analog Output Voltage from DAC A. The output amplifier has rail-to-rail operation.", 3 VREF-AB (in) "Reference Input Pin for DAC A and DAC B. It may be configured as a buffered or unbuffered input to both DAC A and DAC B. It has an input range from 0.25 V to VDD in unbuffered mode and from 1 V to VDD in buffered mode. DAC A (See Datasheet)", 4 ~{CS} (in) "SPI Active Low Control Input. This is the frame synchronization signal for the input data. When C\S\ goes low, it enables the input register, and data is transferred in on the rising edges and out on the falling edges of the (See Datasheet)", 5 GND (power) "Ground Reference Point for All Circuitry on the Part. Analog and digital ground.", 6 VDD (power) "Positive Supply Voltage, 2.7 V to 5.5 V. The supply should be decoupled to ground.", 7 D+ (in) "Positive connection to external temperature sensor.", 8 D- (in) "Negative connection to external temperature sensor.", 9 ~{LDAC} (in) "Active low control input that transfers the contents of the input registers to their respective DAC registers. A falling edge on this pin forces any or all DAC registers to be updated if the input registers have new data. A (See Datasheet)", 10 INT/~{INT} (oc) "Over-Limit Interrupt. The output polarity of this pin can be set to give an active low or active high interrupt when temperature or VDD limits are exceeded. Default is active low. Open-drain output-needs a pull-up resistor.", 11 DOUT/ADD (io) "DOUT: SPI Serial Data Output. Logic output. Data is clocked out of any register at this pin. Data is clocked out on the falling edge of SCLK. Open-drain output-needs a pull-up resistor. ADD: I2C Serial Bus Address Selection (See Datasheet)", 12 SDA/DIN (io) "SDA: I2C Serial Data Input. I2C serial data that is loaded into the device registers is provided on this input. Open-drain configuration-needs a pull-up resistor. DIN: SPI Serial Data Input. Serial data to be loaded into the (See Datasheet)", 13 SCL/SCLK (in) "Serial Clock Input. This is the clock input for the serial port. The serial clock is used to clock data out of any register of the ADT7316/ADT7317/ADT7318 and also to clock data into any register that can be written to. (See Datasheet)", 14 VREF-CD (in) "Reference Input Pin for DAC C and DAC D. It can be configured as a buffered or unbuffered input to both DAC C and DAC D. It has an input range from 0.25 V to VDD in unbuffered mode and from 1 V to VDD in buffered mode. DAC C (See Datasheet)", 15 VOUT-D (hiz) "Buffered Analog Output Voltage from DAC D. The output amplifier has rail-to-rail operation.", 16 VOUT-C (hiz) "Buffered Analog Output Voltage from DAC C. The output amplifier has rail-to-rail operation."

## ADT7317ARQZ-REEL
designator U?
+/-0.5 degrees C Accurate Digital Temperature Sensor and Quad Voltage Output 10-Bit DAC, 2.7 to 5.5 V Supply, Industrial, 16-pin SOP (RQ-16), Reel; Manufacturer: Analog Devices; PartNumber: ADT7317ARQZ-REEL; #_ADC_channels: 1; #_DAC_channels: 4; DatasheetVersion: Rev. B; PackageVersion: 08/2005; PackageReference: RQ-16; PackageDescription: 16-Pin Shrink Small Outline Package, Body 4.9 x 3.9 mm, Pitch 0.64 mm; Supplier 1: Digi-Key; Supplier Part Number 1: ADT7317ARQZ-REEL-ND; Supplier 2: Mouser; Supplier Part Number 2: N/A; Packing: Reel; Supply Voltage Range: 2.7 to 5.5 V; Mounting Technology: Surface Mount; Code_JEDEC: MO-137-AB; ComponentLink1Description: Manufacturer URL; ComponentLink1URL: http://www.analog.com/en/index.html; ComponentLink2Description: Datasheet; ComponentLink2URL: http://www.analog.com/static/imported-files/data_sheets/ADT7316_7317_7318.pdf; ComponentLink3Description: Package Specification; ComponentLink3URL: http://www.analog.com/static/imported-files/packages/5595549651201762937RQ_16.pdf; ComponentLink4Description: Product URL; ComponentLink4URL: http://www.analog.com/en/mems-sensors/digital-temperature-sensors/adt7317/products/product.html
footprint ADI-RQ-16_N (SOP, 16-Leads, Body 4.9x3.9mm, Pitch 0.64mm, IPC Medium Density)
footprint ADI-RQ-16_L (SOP, 16-Leads, Body 4.9x3.9mm, Pitch 0.64mm, IPC High Density)
footprint ADI-RQ-16_M (SOP, 16-Leads, Body 4.9x3.9mm, Pitch 0.64mm, IPC Low Density)
pins: 1 VOUT-B (hiz) "Buffered Analog Output Voltage from DAC B. The output amplifier has rail-to-rail operation.", 2 VOUT-A (hiz) "Buffered Analog Output Voltage from DAC A. The output amplifier has rail-to-rail operation.", 3 VREF-AB (in) "Reference Input Pin for DAC A and DAC B. It may be configured as a buffered or unbuffered input to both DAC A and DAC B. It has an input range from 0.25 V to VDD in unbuffered mode and from 1 V to VDD in buffered mode. DAC A (See Datasheet)", 4 ~{CS} (in) "SPI Active Low Control Input. This is the frame synchronization signal for the input data. When C\S\ goes low, it enables the input register, and data is transferred in on the rising edges and out on the falling edges of the (See Datasheet)", 5 GND (power) "Ground Reference Point for All Circuitry on the Part. Analog and digital ground.", 6 VDD (power) "Positive Supply Voltage, 2.7 V to 5.5 V. The supply should be decoupled to ground.", 7 D+ (in) "Positive connection to external temperature sensor.", 8 D- (in) "Negative connection to external temperature sensor.", 9 ~{LDAC} (in) "Active low control input that transfers the contents of the input registers to their respective DAC registers. A falling edge on this pin forces any or all DAC registers to be updated if the input registers have new data. A (See Datasheet)", 10 INT/~{INT} (oc) "Over-Limit Interrupt. The output polarity of this pin can be set to give an active low or active high interrupt when temperature or VDD limits are exceeded. Default is active low. Open-drain output-needs a pull-up resistor.", 11 DOUT/ADD (io) "DOUT: SPI Serial Data Output. Logic output. Data is clocked out of any register at this pin. Data is clocked out on the falling edge of SCLK. Open-drain output-needs a pull-up resistor. ADD: I2C Serial Bus Address Selection (See Datasheet)", 12 SDA/DIN (io) "SDA: I2C Serial Data Input. I2C serial data that is loaded into the device registers is provided on this input. Open-drain configuration-needs a pull-up resistor. DIN: SPI Serial Data Input. Serial data to be loaded into the (See Datasheet)", 13 SCL/SCLK (in) "Serial Clock Input. This is the clock input for the serial port. The serial clock is used to clock data out of any register of the ADT7316/ADT7317/ADT7318 and also to clock data into any register that can be written to. (See Datasheet)", 14 VREF-CD (in) "Reference Input Pin for DAC C and DAC D. It can be configured as a buffered or unbuffered input to both DAC C and DAC D. It has an input range from 0.25 V to VDD in unbuffered mode and from 1 V to VDD in buffered mode. DAC C (See Datasheet)", 15 VOUT-D (hiz) "Buffered Analog Output Voltage from DAC D. The output amplifier has rail-to-rail operation.", 16 VOUT-C (hiz) "Buffered Analog Output Voltage from DAC C. The output amplifier has rail-to-rail operation."

## ADT7317ARQZ-REEL7
designator U?
+/-0.5 degrees C Accurate Digital Temperature Sensor and Quad Voltage Output 10-Bit DAC, 2.7 to 5.5 V Supply, Industrial, 16-pin SOP (RQ-16), Reel; Manufacturer: Analog Devices; PartNumber: ADT7317ARQZ-REEL7; #_ADC_channels: 1; #_DAC_channels: 4; DatasheetVersion: Rev. B; PackageVersion: 08/2005; PackageReference: RQ-16; PackageDescription: 16-Pin Shrink Small Outline Package, Body 4.9 x 3.9 mm, Pitch 0.64 mm; Supplier 1: Digi-Key; Supplier Part Number 1: ADT7317ARQZ-REEL7-ND; Supplier 2: Mouser; Supplier Part Number 2: N/A; Packing: Reel; Supply Voltage Range: 2.7 to 5.5 V; Mounting Technology: Surface Mount; Code_JEDEC: MO-137-AB; ComponentLink1Description: Manufacturer URL; ComponentLink1URL: http://www.analog.com/en/index.html; ComponentLink2Description: Datasheet; ComponentLink2URL: http://www.analog.com/static/imported-files/data_sheets/ADT7316_7317_7318.pdf; ComponentLink3Description: Package Specification; ComponentLink3URL: http://www.analog.com/static/imported-files/packages/5595549651201762937RQ_16.pdf; ComponentLink4Description: Product URL; ComponentLink4URL: http://www.analog.com/en/mems-sensors/digital-temperature-sensors/adt7317/products/product.html
footprint ADI-RQ-16_N (SOP, 16-Leads, Body 4.9x3.9mm, Pitch 0.64mm, IPC Medium Density)
footprint ADI-RQ-16_L (SOP, 16-Leads, Body 4.9x3.9mm, Pitch 0.64mm, IPC High Density)
footprint ADI-RQ-16_M (SOP, 16-Leads, Body 4.9x3.9mm, Pitch 0.64mm, IPC Low Density)
pins: 1 VOUT-B (hiz) "Buffered Analog Output Voltage from DAC B. The output amplifier has rail-to-rail operation.", 2 VOUT-A (hiz) "Buffered Analog Output Voltage from DAC A. The output amplifier has rail-to-rail operation.", 3 VREF-AB (in) "Reference Input Pin for DAC A and DAC B. It may be configured as a buffered or unbuffered input to both DAC A and DAC B. It has an input range from 0.25 V to VDD in unbuffered mode and from 1 V to VDD in buffered mode. DAC A (See Datasheet)", 4 ~{CS} (in) "SPI Active Low Control Input. This is the frame synchronization signal for the input data. When C\S\ goes low, it enables the input register, and data is transferred in on the rising edges and out on the falling edges of the (See Datasheet)", 5 GND (power) "Ground Reference Point for All Circuitry on the Part. Analog and digital ground.", 6 VDD (power) "Positive Supply Voltage, 2.7 V to 5.5 V. The supply should be decoupled to ground.", 7 D+ (in) "Positive connection to external temperature sensor.", 8 D- (in) "Negative connection to external temperature sensor.", 9 ~{LDAC} (in) "Active low control input that transfers the contents of the input registers to their respective DAC registers. A falling edge on this pin forces any or all DAC registers to be updated if the input registers have new data. A (See Datasheet)", 10 INT/~{INT} (oc) "Over-Limit Interrupt. The output polarity of this pin can be set to give an active low or active high interrupt when temperature or VDD limits are exceeded. Default is active low. Open-drain output-needs a pull-up resistor.", 11 DOUT/ADD (io) "DOUT: SPI Serial Data Output. Logic output. Data is clocked out of any register at this pin. Data is clocked out on the falling edge of SCLK. Open-drain output-needs a pull-up resistor. ADD: I2C Serial Bus Address Selection (See Datasheet)", 12 SDA/DIN (io) "SDA: I2C Serial Data Input. I2C serial data that is loaded into the device registers is provided on this input. Open-drain configuration-needs a pull-up resistor. DIN: SPI Serial Data Input. Serial data to be loaded into the (See Datasheet)", 13 SCL/SCLK (in) "Serial Clock Input. This is the clock input for the serial port. The serial clock is used to clock data out of any register of the ADT7316/ADT7317/ADT7318 and also to clock data into any register that can be written to. (See Datasheet)", 14 VREF-CD (in) "Reference Input Pin for DAC C and DAC D. It can be configured as a buffered or unbuffered input to both DAC C and DAC D. It has an input range from 0.25 V to VDD in unbuffered mode and from 1 V to VDD in buffered mode. DAC C (See Datasheet)", 15 VOUT-D (hiz) "Buffered Analog Output Voltage from DAC D. The output amplifier has rail-to-rail operation.", 16 VOUT-C (hiz) "Buffered Analog Output Voltage from DAC C. The output amplifier has rail-to-rail operation."